# EAGLE library part L272D013TR (library op_amp)
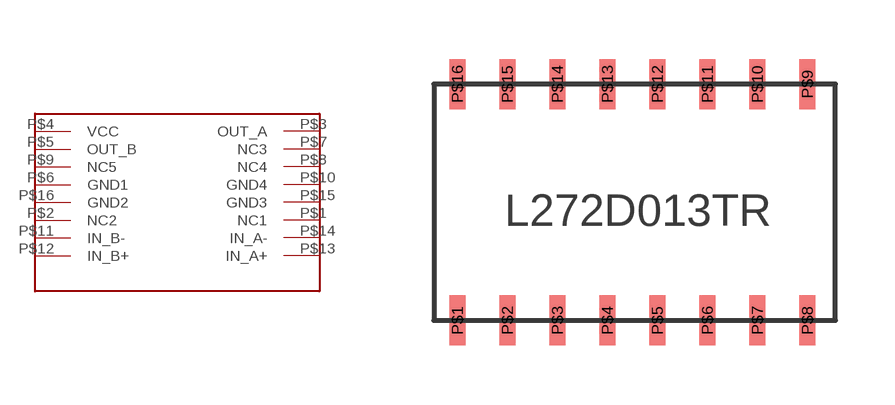
[diagram p1: symbol with the pads of L272; footprint L272]

Designator prefix -

## L272D013TR  [L272]
P$1  NC1
P$2  NC2
P$3  OUT_A
P$4  VCC
P$5  OUT_B
P$6  GND1
P$7  NC3
P$8  NC4
P$9  NC5
P$10  GND4
P$11  IN_B-
P$12  IN_B+
P$13  IN_A+
P$14  IN_A-
P$15  GND3
P$16  GND2

## Footprint L272 (pad centres in mm)
smd 0.406 x 1.27: P$1 0,-6; P$2 1.27,-6; P$3 2.54,-6; P$4 3.81,-6; P$5 5.08,-6; P$6 6.35,-6; P$7 7.62,-6; P$8 8.89,-6; P$9 8.89,0; P$10 7.62,0; P$11 6.35,0; P$12 5.08,0; P$13 3.81,0; P$14 2.54,0; P$15 1.27,0; P$16 0,0